# Altium schematic symbol library AD8603AUJZ.SchLib: 2 symbols
Pins are listed as number, name and electrical type; pins without a type are passive.

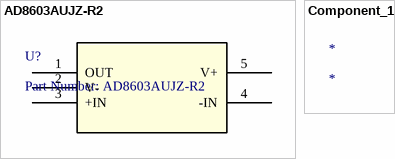
[diagram p0: symbols AD8603AUJZ-R2 to Component_1]

## AD8603AUJZ-R2
designator U?, comment Part Number: AD8603AUJZ-R2
No Description Available; Vendor: Analog Devices Inc; Built_By: Analog_Devices_Team; Manufacturer_Part_Number: AD8603AUJZ-R2; Copyright: Copyright (C) 2018 Accelerated Designs. All rights reserved; RefDes: RefDes; Type: DEV; Value: Value
footprint UJ_5
pins: 1 OUT, 2 V-, 3 +IN, 4 -IN, 5 V+

## Component_1
designator *